# Altium integrated library Linear Technology Power Management Switching Regulator LTC1174-LTC3901.IntLib: 2647 symbols (part 361 of 364)
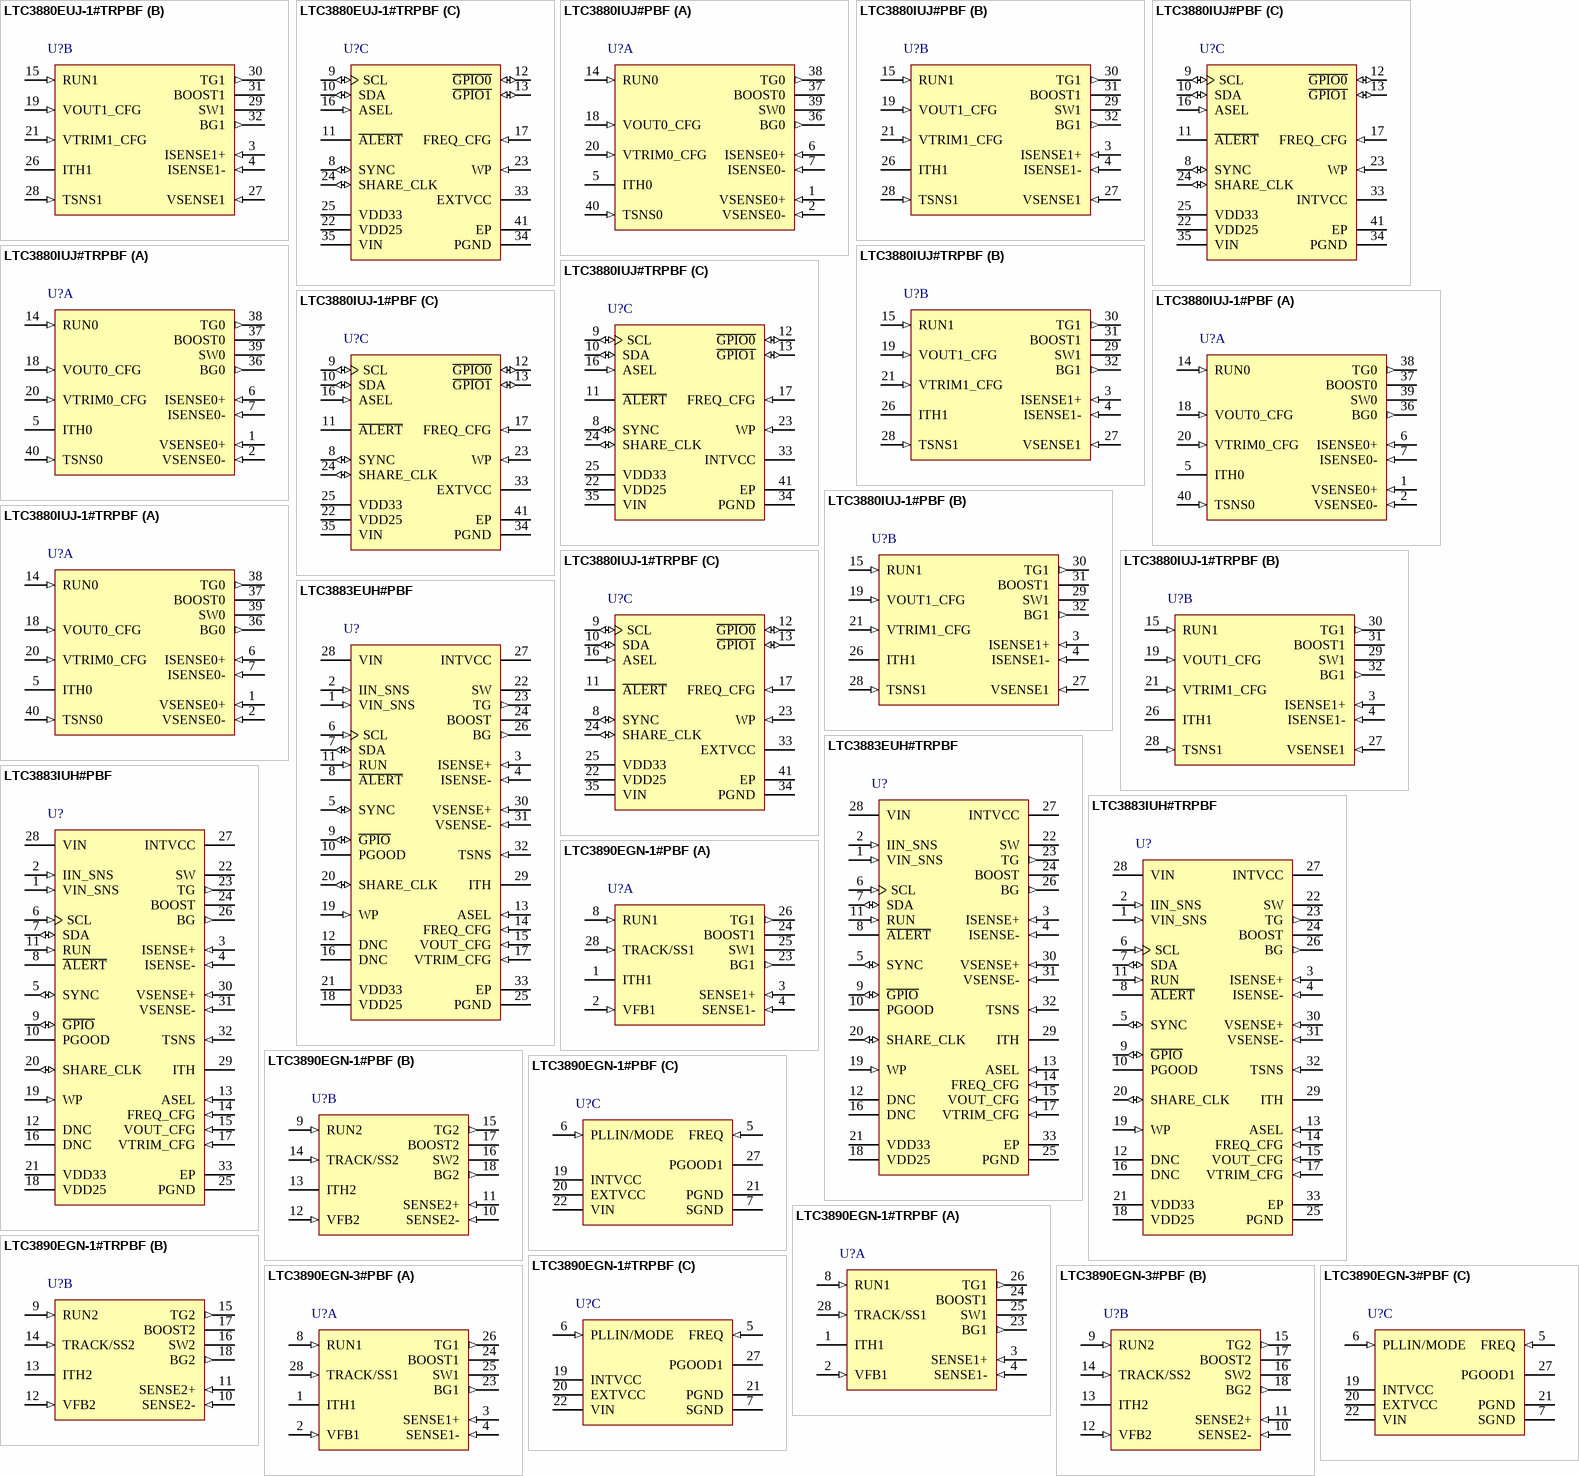
[diagram p304: symbols LTC3880EUJ-1#TRPBF to LTC3890EGN-3#PBF]

## LTC3880IUJ#PBF
designator U?
Dual Output PolyPhase Step-Down DC/DC Controller with Digital Power System Management, 40-pin QFN (UJ-40), -40 to 125 degC, Pb-Free; Manufacturer: Linear Technology; PartNumber: LTC3880IUJ#PBF; Frequency Sync Range: 250kHz - 1MHz; Number of Outputs: 2; DatasheetVersion: Rev. A; PackageVersion: Rev. Ø, 06/2010; PackageReference: UJ-40; PackageDescription: 40-Pin Plastic QFN, Body 6 x 6 mm, Pitch 0.5 mm; Supplier 1: Digi-Key; Supplier Part Number 1: LTC3880IUJ#PBF-ND; Supplier 2: Newark; Supplier Part Number 2: 78T3291; RoHS: TRUE; Mounting Technology: Surface Mount; ComponentLink1Description: Manufacturer URL; ComponentLink1URL: http://www.linear.com/; ComponentLink2Description: Datasheet; ComponentLink2URL: http://cds.linear.com/docs/en/datasheet/3880fa.pdf; ComponentLink3Description: Package Specification; ComponentLink3URL: http://cds.linear.com/docs/en/packaging/QFN_40_05-08-1728.pdf
footprint LT-UJ-40_N (QFN, 40-Leads, Body 6.1x6.1mm, Pitch 0.5mm, Thermal Pad 4.42x4.42mm, IPC Medium Density)
footprint LT-UJ-40_L (QFN, 40-Leads, Body 6.1x6.1mm, Pitch 0.5mm, Thermal Pad 4.42x4.42mm, IPC High Density)
footprint LT-UJ-40_M (QFN, 40-Leads, Body 6.1x6.1mm, Pitch 0.5mm, Thermal Pad 4.42x4.42mm, IPC Low Density)
part A pins: 1 VSENSE0+ (in) "Channel 0 Positive Voltage Sense Input.", 2 VSENSE0- (in) "Channel 0 Negative Voltage Sense Input.", 5 ITH0 "Current Control Threshold and Error Amplifier Compensation Nodes. Each associated channel¡¯s current comparator tripping threshold increases with its ITH voltage.", 6 ISENSE0+ (in) "Current Sense Comparator Inputs. The (+) inputs to the current comparators are normally connected to DCR sensing networks or current sensing resistors.", 7 ISENSE0- (in) "Current Sense Comparator Inputs. The (-) inputs are connected to the low side of the current sense element.", 14 RUN0 (in) "Enable Run Input. Logic high on these pins enables the controller. Open-drain output holds the pin low until the LTC3880 is out of reset. A pullup resistor to 3.3V is required in the application.", 18 VOUT0_CFG (in) "Output Voltage Select Pin. Connect a +/-1% resistor divider between the chip VDD25 VOUTn_CFG and SGND in order to select output voltage. This voltage can be adjusted with the VTRIMn_CFG pins. If the pin is left open, the IC (See Datasheet)", 20 VTRIM0_CFG (in) "Voltage Trim Select Pin. Connect a +/-1% resistor divider between the chip VDD25 VTRIMn_CFG and SGND in order to adjust the output voltage set point. The VTRIMn_CFG settings in conjunction with the VOUTn_CFG setting adjusts (See Datasheet)", 36 BG0 (out) "Bottom Gate Driver Outputs. These pins drive the gates of the bottom N-Channel MOSFETs between PGND and INTVCC.", 37 BOOST0 "Boosted Floating Driver Supplies. The (+) terminal of the booststrap capacitors connect to these pins. These pins swing from a diode voltage drop below INTVCC up to VIN + INTVCC.", 38 TG0 (out) "Top Gate Driver Outputs. These are the outputs of floating drivers with a voltage swing equal to INTVCC superimposed on the switch node voltages.", 39 SW0 "Switch Node Connections to Inductors. Voltage swings at the pins are from a Schottky diode (external) voltage drop below ground to VIN.", 40 TSNS0 (in) "Channel 0,1 External Diode Temperature Sense. Connect to the anode of a diode connected PNP transistor and star connect the cathode to SGND in order to sense remote temperature. If external temperature sense elements are not (See Datasheet)"
part B pins: 3 ISENSE1+ (in) "Current Sense Comparator Inputs. The (+) inputs to the current comparators are normally connected to DCR sensing networks or current sensing resistors.", 4 ISENSE1- (in) "Current Sense Comparator Inputs. The (-) inputs are connected to the low side of the current sense element.", 15 RUN1 (in) "Enable Run Input. Logic high on these pins enables the controller. Open-drain output holds the pin low until the LTC3880 is out of reset. A pullup resistor to 3.3V is required in the application.", 19 VOUT1_CFG (in) "Output Voltage Select Pin. Connect a +/-1% resistor divider between the chip VDD25 VOUTn_CFG and SGND in order to select output voltage. This voltage can be adjusted with the VTRIMn_CFG pins. If the pin is left open, the IC (See Datasheet)", 21 VTRIM1_CFG (in) "Voltage Trim Select Pin. Connect a +/-1% resistor divider between the chip VDD25 VTRIMn_CFG and SGND in order to adjust the output voltage set point. The VTRIMn_CFG settings in conjunction with the VOUTn_CFG setting adjusts (See Datasheet)", 26 ITH1 "Current Control Threshold and Error Amplifier Compensation Nodes. Each associated channel¡¯s current comparator tripping threshold increases with its ITH voltage.", 27 VSENSE1 (in) "Channel 1 Voltage Sense Input. This input voltage is referenced to the SGND pin.", 28 TSNS1 (in) "Channel 0,1 External Diode Temperature Sense. Connect to the anode of a diode connected PNP transistor and star connect the cathode to SGND in order to sense remote temperature. If external temperature sense elements are not (See Datasheet)", 29 SW1 "Switch Node Connections to Inductors. Voltage swings at the pins are from a Schottky diode (external) voltage drop below ground to VIN.", 30 TG1 (out) "Top Gate Driver Outputs. These are the outputs of floating drivers with a voltage swing equal to INTVCC superimposed on the switch node voltages.", 31 BOOST1 "Boosted Floating Driver Supplies. The (+) terminal of the booststrap capacitors connect to these pins. These pins swing from a diode voltage drop below INTVCC up to VIN + INTVCC.", 32 BG1 (out) "Bottom Gate Driver Outputs. These pins drive the gates of the bottom N-Channel MOSFETs between PGND and INTVCC."
part C pins: 8 SYNC (io) "External Clock Synchronization Input and Open-Drain Output Pin. If an external clock is present at this pin, the switching frequency will be synchronized to the external clock. If clock master mode is enabled, this pin will (See Datasheet)", 9 SCL (io) "Serial Bus Clock Input. Open-drain output, can hold the output low if clock stretching is enabled. A pull-up resistor to 3.3V is required in the application.", 10 SDA (io) "Serial Bus Data Input and Output. A pull-up resistor to 3.3V is required in the application.", 11 ~{ALERT} (oc) "Open-Drain Digital Output. Connect the S\M\B\A\L\E\R\T\ signal to this pin. A pull-up resistor to 3.3V is required in the application", 12 ~{GPIO0} (io) "Digital Programmable General Purpose Inputs and Outputs. Open-drain output. A pull-up resistor to 3.3V is required in the application.", 13 ~{GPIO1} (io) "Digital Programmable General Purpose Inputs and Outputs. Open-drain output. A pull-up resistor to 3.3V is required in the application.", 16 ASEL (in) "Serial Bus Address Configuration Input. Connect a +/-1% resistor divider between the chip VDD25 ASEL and SGND in order to select the 4LSBs of the serial bus interface address. A resistor divider on ASEL is recommended if (See Datasheet)", 17 FREQ_CFG (in) "Frequency or Phase Set/Select Pin. Connect a +/-1% resistor divider between the chip VDD25 FREQ_CFG and SGND in order to select switching frequency or phase. If the pin is left open, the IC will use the value programmed in (See Datasheet)", 22 VDD25 (power) "Internally Generated 2.5V power Supply Output Pin. Bypass this pin to SGND with a low ESR 1uF capacitor. Do not load this pin with external current except for the +/-1% resistor dividers required for the configuration pins.", 23 WP (in) "Write Protect Pin Active High. An internal 10uA current source pulls the pin to VDD33. If WP is high, the PMBus writes are restricted.", 24 SHARE_CLK (io) "Share Clock, Bidirectional Open- Drain Clock Sharing Pin. Nominally 100kHz. Used to synchronize the timing between multiple LTC3880s. Tie all SHARE_CLK pins together. All LTC3880s will synchronize to the fastest clock. A (See Datasheet)", 25 VDD33 (power) "Internally Generated 3.3V Power Supply Output Pin. Bypass this pin to SGND with a low ESR 1uF capacitor. Do not load this pin with external current except for the pull-up resistors required for G\P\I\O\n, SCLK, SYNC and (See Datasheet)", 33 INTVCC (power) "Internal Regulator 5V Output. The control circuits are powered from this voltage. Decouple this pin to PGND with a minimum of 4.7uF low ESR tantalum or ceramic capacitor.", 34 PGND (power) "Power Ground Pin. Connect this pin closely to the sources of the bottom N-channel MOSFETs, the (-) terminal of CVCC and the (-) terminal of CIN.", 35 VIN (power) "Main Input Supply. Decouple this pin to PGND with a capacitor (0.1uF to 1uF). For applications where the main input power is 5V, tie the VIN and INTVCC pins together.", 41 EP (power) "Signal Ground. All smallsignal and compensation components should connect to this ground, which in turn connects to PGND at one point."

## LTC3880IUJ#TRPBF
designator U?
Dual Output PolyPhase Step-Down DC/DC Controller with Digital Power System Management, 40-pin QFN (UJ-40), -40 to 125 degC, Pb-Free, Tape and Reel; Manufacturer: Linear Technology; PartNumber: LTC3880IUJ#TRPBF; Frequency Sync Range: 250kHz - 1MHz; Number of Outputs: 2; DatasheetVersion: Rev. A; PackageVersion: Rev. Ø, 06/2010; PackageReference: UJ-40; PackageDescription: 40-Pin Plastic QFN, Body 6 x 6 mm, Pitch 0.5 mm; Supplier 1: Digi-Key; Supplier Part Number 1: LTC3880IUJ#TRPBF-ND; Packing: Tape and Reel; RoHS: TRUE; Mounting Technology: Surface Mount; ComponentLink1Description: Manufacturer URL; ComponentLink1URL: http://www.linear.com/; ComponentLink2Description: Datasheet; ComponentLink2URL: http://cds.linear.com/docs/en/datasheet/3880fa.pdf; ComponentLink3Description: Package Specification; ComponentLink3URL: http://cds.linear.com/docs/en/packaging/QFN_40_05-08-1728.pdf
footprint LT-UJ-40_N (QFN, 40-Leads, Body 6.1x6.1mm, Pitch 0.5mm, Thermal Pad 4.42x4.42mm, IPC Medium Density)
footprint LT-UJ-40_L (QFN, 40-Leads, Body 6.1x6.1mm, Pitch 0.5mm, Thermal Pad 4.42x4.42mm, IPC High Density)
footprint LT-UJ-40_M (QFN, 40-Leads, Body 6.1x6.1mm, Pitch 0.5mm, Thermal Pad 4.42x4.42mm, IPC Low Density)
part A pins: 1 VSENSE0+ (in) "Channel 0 Positive Voltage Sense Input.", 2 VSENSE0- (in) "Channel 0 Negative Voltage Sense Input.", 5 ITH0 "Current Control Threshold and Error Amplifier Compensation Nodes. Each associated channel¡¯s current comparator tripping threshold increases with its ITH voltage.", 6 ISENSE0+ (in) "Current Sense Comparator Inputs. The (+) inputs to the current comparators are normally connected to DCR sensing networks or current sensing resistors.", 7 ISENSE0- (in) "Current Sense Comparator Inputs. The (-) inputs are connected to the low side of the current sense element.", 14 RUN0 (in) "Enable Run Input. Logic high on these pins enables the controller. Open-drain output holds the pin low until the LTC3880 is out of reset. A pullup resistor to 3.3V is required in the application.", 18 VOUT0_CFG (in) "Output Voltage Select Pin. Connect a +/-1% resistor divider between the chip VDD25 VOUTn_CFG and SGND in order to select output voltage. This voltage can be adjusted with the VTRIMn_CFG pins. If the pin is left open, the IC (See Datasheet)", 20 VTRIM0_CFG (in) "Voltage Trim Select Pin. Connect a +/-1% resistor divider between the chip VDD25 VTRIMn_CFG and SGND in order to adjust the output voltage set point. The VTRIMn_CFG settings in conjunction with the VOUTn_CFG setting adjusts (See Datasheet)", 36 BG0 (out) "Bottom Gate Driver Outputs. These pins drive the gates of the bottom N-Channel MOSFETs between PGND and INTVCC.", 37 BOOST0 "Boosted Floating Driver Supplies. The (+) terminal of the booststrap capacitors connect to these pins. These pins swing from a diode voltage drop below INTVCC up to VIN + INTVCC.", 38 TG0 (out) "Top Gate Driver Outputs. These are the outputs of floating drivers with a voltage swing equal to INTVCC superimposed on the switch node voltages.", 39 SW0 "Switch Node Connections to Inductors. Voltage swings at the pins are from a Schottky diode (external) voltage drop below ground to VIN.", 40 TSNS0 (in) "Channel 0,1 External Diode Temperature Sense. Connect to the anode of a diode connected PNP transistor and star connect the cathode to SGND in order to sense remote temperature. If external temperature sense elements are not (See Datasheet)"
part B pins: 3 ISENSE1+ (in) "Current Sense Comparator Inputs. The (+) inputs to the current comparators are normally connected to DCR sensing networks or current sensing resistors.", 4 ISENSE1- (in) "Current Sense Comparator Inputs. The (-) inputs are connected to the low side of the current sense element.", 15 RUN1 (in) "Enable Run Input. Logic high on these pins enables the controller. Open-drain output holds the pin low until the LTC3880 is out of reset. A pullup resistor to 3.3V is required in the application.", 19 VOUT1_CFG (in) "Output Voltage Select Pin. Connect a +/-1% resistor divider between the chip VDD25 VOUTn_CFG and SGND in order to select output voltage. This voltage can be adjusted with the VTRIMn_CFG pins. If the pin is left open, the IC (See Datasheet)", 21 VTRIM1_CFG (in) "Voltage Trim Select Pin. Connect a +/-1% resistor divider between the chip VDD25 VTRIMn_CFG and SGND in order to adjust the output voltage set point. The VTRIMn_CFG settings in conjunction with the VOUTn_CFG setting adjusts (See Datasheet)", 26 ITH1 "Current Control Threshold and Error Amplifier Compensation Nodes. Each associated channel¡¯s current comparator tripping threshold increases with its ITH voltage.", 27 VSENSE1 (in) "Channel 1 Voltage Sense Input. This input voltage is referenced to the SGND pin.", 28 TSNS1 (in) "Channel 0,1 External Diode Temperature Sense. Connect to the anode of a diode connected PNP transistor and star connect the cathode to SGND in order to sense remote temperature. If external temperature sense elements are not (See Datasheet)", 29 SW1 "Switch Node Connections to Inductors. Voltage swings at the pins are from a Schottky diode (external) voltage drop below ground to VIN.", 30 TG1 (out) "Top Gate Driver Outputs. These are the outputs of floating drivers with a voltage swing equal to INTVCC superimposed on the switch node voltages.", 31 BOOST1 "Boosted Floating Driver Supplies. The (+) terminal of the booststrap capacitors connect to these pins. These pins swing from a diode voltage drop below INTVCC up to VIN + INTVCC.", 32 BG1 (out) "Bottom Gate Driver Outputs. These pins drive the gates of the bottom N-Channel MOSFETs between PGND and INTVCC."
part C pins: 8 SYNC (io) "External Clock Synchronization Input and Open-Drain Output Pin. If an external clock is present at this pin, the switching frequency will be synchronized to the external clock. If clock master mode is enabled, this pin will (See Datasheet)", 9 SCL (io) "Serial Bus Clock Input. Open-drain output, can hold the output low if clock stretching is enabled. A pull-up resistor to 3.3V is required in the application.", 10 SDA (io) "Serial Bus Data Input and Output. A pull-up resistor to 3.3V is required in the application.", 11 ~{ALERT} (oc) "Open-Drain Digital Output. Connect the S\M\B\A\L\E\R\T\ signal to this pin. A pull-up resistor to 3.3V is required in the application", 12 ~{GPIO0} (io) "Digital Programmable General Purpose Inputs and Outputs. Open-drain output. A pull-up resistor to 3.3V is required in the application.", 13 ~{GPIO1} (io) "Digital Programmable General Purpose Inputs and Outputs. Open-drain output. A pull-up resistor to 3.3V is required in the application.", 16 ASEL (in) "Serial Bus Address Configuration Input. Connect a +/-1% resistor divider between the chip VDD25 ASEL and SGND in order to select the 4LSBs of the serial bus interface address. A resistor divider on ASEL is recommended if (See Datasheet)", 17 FREQ_CFG (in) "Frequency or Phase Set/Select Pin. Connect a +/-1% resistor divider between the chip VDD25 FREQ_CFG and SGND in order to select switching frequency or phase. If the pin is left open, the IC will use the value programmed in (See Datasheet)", 22 VDD25 (power) "Internally Generated 2.5V power Supply Output Pin. Bypass this pin to SGND with a low ESR 1uF capacitor. Do not load this pin with external current except for the +/-1% resistor dividers required for the configuration pins.", 23 WP (in) "Write Protect Pin Active High. An internal 10uA current source pulls the pin to VDD33. If WP is high, the PMBus writes are restricted.", 24 SHARE_CLK (io) "Share Clock, Bidirectional Open- Drain Clock Sharing Pin. Nominally 100kHz. Used to synchronize the timing between multiple LTC3880s. Tie all SHARE_CLK pins together. All LTC3880s will synchronize to the fastest clock. A (See Datasheet)", 25 VDD33 (power) "Internally Generated 3.3V Power Supply Output Pin. Bypass this pin to SGND with a low ESR 1uF capacitor. Do not load this pin with external current except for the pull-up resistors required for G\P\I\O\n, SCLK, SYNC and (See Datasheet)", 33 INTVCC (power) "Internal Regulator 5V Output. The control circuits are powered from this voltage. Decouple this pin to PGND with a minimum of 4.7uF low ESR tantalum or ceramic capacitor.", 34 PGND (power) "Power Ground Pin. Connect this pin closely to the sources of the bottom N-channel MOSFETs, the (-) terminal of CVCC and the (-) terminal of CIN.", 35 VIN (power) "Main Input Supply. Decouple this pin to PGND with a capacitor (0.1uF to 1uF). For applications where the main input power is 5V, tie the VIN and INTVCC pins together.", 41 EP (power) "Signal Ground. All smallsignal and compensation components should connect to this ground, which in turn connects to PGND at one point."

## LTC3880IUJ-1#PBF
designator U?
Dual Output PolyPhase Step-Down DC/DC Controller with Digital Power System Management, 40-pin QFN (UJ-40), -40 to 125 degC, Pb-Free; Manufacturer: Linear Technology; PartNumber: LTC3880IUJ-1#PBF; Frequency Sync Range: 250kHz - 1MHz; Number of Outputs: 2; DatasheetVersion: Rev. A; PackageVersion: Rev. Ø, 06/2010; PackageReference: UJ-40; PackageDescription: 40-Pin Plastic QFN, Body 6 x 6 mm, Pitch 0.5 mm; Supplier 1: Digi-Key; Supplier Part Number 1: LTC3880IUJ-1#PBF-ND; RoHS: TRUE; Mounting Technology: Surface Mount; ComponentLink1Description: Manufacturer URL; ComponentLink1URL: http://www.linear.com/; ComponentLink2Description: Datasheet; ComponentLink2URL: http://cds.linear.com/docs/en/datasheet/3880fa.pdf; ComponentLink3Description: Package Specification; ComponentLink3URL: http://cds.linear.com/docs/en/packaging/QFN_40_05-08-1728.pdf
footprint LT-UJ-40_N (QFN, 40-Leads, Body 6.1x6.1mm, Pitch 0.5mm, Thermal Pad 4.42x4.42mm, IPC Medium Density)
footprint LT-UJ-40_L (QFN, 40-Leads, Body 6.1x6.1mm, Pitch 0.5mm, Thermal Pad 4.42x4.42mm, IPC High Density)
footprint LT-UJ-40_M (QFN, 40-Leads, Body 6.1x6.1mm, Pitch 0.5mm, Thermal Pad 4.42x4.42mm, IPC Low Density)
part A pins: 1 VSENSE0+ (in) "Channel 0 Positive Voltage Sense Input.", 2 VSENSE0- (in) "Channel 0 Negative Voltage Sense Input.", 5 ITH0 "Current Control Threshold and Error Amplifier Compensation Nodes. Each associated channel’s current comparator tripping threshold increases with its ITH voltage.", 6 ISENSE0+ (in) "Current Sense Comparator Inputs. The (+) inputs to the current comparators are normally connected to DCR sensing networks or current sensing resistors.", 7 ISENSE0- (in) "Current Sense Comparator Inputs. The (-) inputs are connected to the low side of the current sense element.", 14 RUN0 (in) "Enable Run Input. Logic high on these pins enables the controller. Open-drain output holds the pin low until the LTC3880 is out of reset. A pullup resistor to 3.3V is required in the application.", 18 VOUT0_CFG (in) "Output Voltage Select Pin. Connect a +/-1% resistor divider between the chip VDD25 VOUTn_CFG and SGND in order to select output voltage. This voltage can be adjusted with the VTRIMn_CFG pins. If the pin is left open, the IC (See Datasheet)", 20 VTRIM0_CFG (in) "Voltage Trim Select Pin. Connect a +/-1% resistor divider between the chip VDD25 VTRIMn_CFG and SGND in order to adjust the output voltage set point. The VTRIMn_CFG settings in conjunction with the VOUTn_CFG setting adjusts (See Datasheet)", 36 BG0 (out) "Bottom Gate Driver Outputs. These pins drive the gates of the bottom N-Channel MOSFETs between PGND and INTVCC.", 37 BOOST0 "Boosted Floating Driver Supplies. The (+) terminal of the booststrap capacitors connect to these pins. These pins swing from a diode voltage drop below INTVCC up to VIN + INTVCC.", 38 TG0 (out) "Top Gate Driver Outputs. These are the outputs of floating drivers with a voltage swing equal to INTVCC superimposed on the switch node voltages.", 39 SW0 "Switch Node Connections to Inductors. Voltage swings at the pins are from a Schottky diode (external) voltage drop below ground to VIN.", 40 TSNS0 (in) "Channel 0,1 External Diode Temperature Sense. Connect to the anode of a diode connected PNP transistor and star connect the cathode to SGND in order to sense remote temperature. If external temperature sense elements are not (See Datasheet)"
part B pins: 3 ISENSE1+ (in) "Current Sense Comparator Inputs. The (+) inputs to the current comparators are normally connected to DCR sensing networks or current sensing resistors.", 4 ISENSE1- (in) "Current Sense Comparator Inputs. The (-) inputs are connected to the low side of the current sense element.", 15 RUN1 (in) "Enable Run Input. Logic high on these pins enables the controller. Open-drain output holds the pin low until the LTC3880 is out of reset. A pullup resistor to 3.3V is required in the application.", 19 VOUT1_CFG (in) "Output Voltage Select Pin. Connect a +/-1% resistor divider between the chip VDD25 VOUTn_CFG and SGND in order to select output voltage. This voltage can be adjusted with the VTRIMn_CFG pins. If the pin is left open, the IC (See Datasheet)", 21 VTRIM1_CFG (in) "Voltage Trim Select Pin. Connect a +/-1% resistor divider between the chip VDD25 VTRIMn_CFG and SGND in order to adjust the output voltage set point. The VTRIMn_CFG settings in conjunction with the VOUTn_CFG setting adjusts (See Datasheet)", 26 ITH1 "Current Control Threshold and Error Amplifier Compensation Nodes. Each associated channel’s current comparator tripping threshold increases with its ITH voltage.", 27 VSENSE1 (in) "Channel 1 Voltage Sense Input. This input voltage is referenced to the SGND pin.", 28 TSNS1 (in) "Channel 0,1 External Diode Temperature Sense. Connect to the anode of a diode connected PNP transistor and star connect the cathode to SGND in order to sense remote temperature. If external temperature sense elements are not (See Datasheet)", 29 SW1 "Switch Node Connections to Inductors. Voltage swings at the pins are from a Schottky diode (external) voltage drop below ground to VIN.", 30 TG1 (out) "Top Gate Driver Outputs. These are the outputs of floating drivers with a voltage swing equal to INTVCC superimposed on the switch node voltages.", 31 BOOST1 "Boosted Floating Driver Supplies. The (+) terminal of the booststrap capacitors connect to these pins. These pins swing from a diode voltage drop below INTVCC up to VIN + INTVCC.", 32 BG1 (out) "Bottom Gate Driver Outputs. These pins drive the gates of the bottom N-Channel MOSFETs between PGND and INTVCC."
part C pins: 8 SYNC (io) "External Clock Synchronization Input and Open-Drain Output Pin. If an external clock is present at this pin, the switching frequency will be synchronized to the external clock. If clock master mode is enabled, this pin will (See Datasheet)", 9 SCL (io) "Serial Bus Clock Input. Open-drain output, can hold the output low if clock stretching is enabled. A pull-up resistor to 3.3V is required in the application.", 10 SDA (io) "Serial Bus Data Input and Output. A pull-up resistor to 3.3V is required in the application.", 11 ~{ALERT} (oc) "Open-Drain Digital Output. Connect the S\M\B\A\L\E\R\T\ signal to this pin. A pull-up resistor to 3.3V is required in the application", 12 ~{GPIO0} (io) "Digital Programmable General Purpose Inputs and Outputs. Open-drain output. A pull-up resistor to 3.3V is required in the application.", 13 ~{GPIO1} (io) "Digital Programmable General Purpose Inputs and Outputs. Open-drain output. A pull-up resistor to 3.3V is required in the application.", 16 ASEL (in) "Serial Bus Address Configuration Input. Connect a +/-1% resistor divider between the chip VDD25 ASEL and SGND in order to select the 4LSBs of the serial bus interface address. A resistor divider on ASEL is recommended if (See Datasheet)", 17 FREQ_CFG (in) "Frequency or Phase Set/Select Pin. Connect a +/-1% resistor divider between the chip VDD25 FREQ_CFG and SGND in order to select switching frequency or phase. If the pin is left open, the IC will use the value programmed in (See Datasheet)", 22 VDD25 (power) "Internally Generated 2.5V power Supply Output Pin. Bypass this pin to SGND with a low ESR 1uF capacitor. Do not load this pin with external current except for the +/-1% resistor dividers required for the configuration pins.", 23 WP (in) "Write Protect Pin Active High. An internal 10uA current source pulls the pin to VDD33. If WP is high, the PMBus writes are restricted.", 24 SHARE_CLK (io) "Share Clock, Bidirectional Open- Drain Clock Sharing Pin. Nominally 100kHz. Used to synchronize the timing between multiple LTC3880s. Tie all SHARE_CLK pins together. All LTC3880s will synchronize to the fastest clock. A (See Datasheet)", 25 VDD33 (power) "Internally Generated 3.3V Power Supply Output Pin. Bypass this pin to SGND with a low ESR 1uF capacitor. Do not load this pin with external current except for the pull-up resistors required for G\P\I\O\n, SCLK, SYNC and (See Datasheet)", 33 EXTVCC (power) "External Regulator 5V input. The control circuits are powered from this voltage. Decouple this pin to PGND with a minimum of 4.7uF low ESR tantalum or ceramic capacitor.", 34 PGND (power) "Power Ground Pin. Connect this pin closely to the sources of the bottom N-channel MOSFETs, the (-) terminal of CVCC and the (-) terminal of CIN.", 35 VIN (power) "Main Input Supply. Decouple this pin to PGND with a capacitor (0.1uF to 1uF). For applications where the main input power is 5V, tie the VIN and INTVCC pins together.", 41 EP (power) "Signal Ground. All smallsignal and compensation components should connect to this ground, which in turn connects to PGND at one point."

## LTC3880IUJ-1#TRPBF
designator U?
Dual Output PolyPhase Step-Down DC/DC Controller with Digital Power System Management, 40-pin QFN (UJ-40), -40 to 125 degC, Pb-Free, Tape and Reel; Manufacturer: Linear Technology; PartNumber: LTC3880IUJ-1#TRPBF; Frequency Sync Range: 250kHz - 1MHz; Number of Outputs: 2; DatasheetVersion: Rev. A; PackageVersion: Rev. Ø, 06/2010; PackageReference: UJ-40; PackageDescription: 40-Pin Plastic QFN, Body 6 x 6 mm, Pitch 0.5 mm; Supplier 1: Digi-Key; Supplier Part Number 1: LTC3880IUJ-1#TRPBF-ND; Packing: Tape and Reel; RoHS: TRUE; Mounting Technology: Surface Mount; ComponentLink1Description: Manufacturer URL; ComponentLink1URL: http://www.linear.com/; ComponentLink2Description: Datasheet; ComponentLink2URL: http://cds.linear.com/docs/en/datasheet/3880fa.pdf; ComponentLink3Description: Package Specification; ComponentLink3URL: http://cds.linear.com/docs/en/packaging/QFN_40_05-08-1728.pdf
footprint LT-UJ-40_N (QFN, 40-Leads, Body 6.1x6.1mm, Pitch 0.5mm, Thermal Pad 4.42x4.42mm, IPC Medium Density)
footprint LT-UJ-40_L (QFN, 40-Leads, Body 6.1x6.1mm, Pitch 0.5mm, Thermal Pad 4.42x4.42mm, IPC High Density)
footprint LT-UJ-40_M (QFN, 40-Leads, Body 6.1x6.1mm, Pitch 0.5mm, Thermal Pad 4.42x4.42mm, IPC Low Density)
part A pins: 1 VSENSE0+ (in) "Channel 0 Positive Voltage Sense Input.", 2 VSENSE0- (in) "Channel 0 Negative Voltage Sense Input.", 5 ITH0 "Current Control Threshold and Error Amplifier Compensation Nodes. Each associated channel’s current comparator tripping threshold increases with its ITH voltage.", 6 ISENSE0+ (in) "Current Sense Comparator Inputs. The (+) inputs to the current comparators are normally connected to DCR sensing networks or current sensing resistors.", 7 ISENSE0- (in) "Current Sense Comparator Inputs. The (-) inputs are connected to the low side of the current sense element.", 14 RUN0 (in) "Enable Run Input. Logic high on these pins enables the controller. Open-drain output holds the pin low until the LTC3880 is out of reset. A pullup resistor to 3.3V is required in the application.", 18 VOUT0_CFG (in) "Output Voltage Select Pin. Connect a +/-1% resistor divider between the chip VDD25 VOUTn_CFG and SGND in order to select output voltage. This voltage can be adjusted with the VTRIMn_CFG pins. If the pin is left open, the IC (See Datasheet)", 20 VTRIM0_CFG (in) "Voltage Trim Select Pin. Connect a +/-1% resistor divider between the chip VDD25 VTRIMn_CFG and SGND in order to adjust the output voltage set point. The VTRIMn_CFG settings in conjunction with the VOUTn_CFG setting adjusts (See Datasheet)", 36 BG0 (out) "Bottom Gate Driver Outputs. These pins drive the gates of the bottom N-Channel MOSFETs between PGND and INTVCC.", 37 BOOST0 "Boosted Floating Driver Supplies. The (+) terminal of the booststrap capacitors connect to these pins. These pins swing from a diode voltage drop below INTVCC up to VIN + INTVCC.", 38 TG0 (out) "Top Gate Driver Outputs. These are the outputs of floating drivers with a voltage swing equal to INTVCC superimposed on the switch node voltages.", 39 SW0 "Switch Node Connections to Inductors. Voltage swings at the pins are from a Schottky diode (external) voltage drop below ground to VIN.", 40 TSNS0 (in) "Channel 0,1 External Diode Temperature Sense. Connect to the anode of a diode connected PNP transistor and star connect the cathode to SGND in order to sense remote temperature. If external temperature sense elements are not (See Datasheet)"
part B pins: 3 ISENSE1+ (in) "Current Sense Comparator Inputs. The (+) inputs to the current comparators are normally connected to DCR sensing networks or current sensing resistors.", 4 ISENSE1- (in) "Current Sense Comparator Inputs. The (-) inputs are connected to the low side of the current sense element.", 15 RUN1 (in) "Enable Run Input. Logic high on these pins enables the controller. Open-drain output holds the pin low until the LTC3880 is out of reset. A pullup resistor to 3.3V is required in the application.", 19 VOUT1_CFG (in) "Output Voltage Select Pin. Connect a +/-1% resistor divider between the chip VDD25 VOUTn_CFG and SGND in order to select output voltage. This voltage can be adjusted with the VTRIMn_CFG pins. If the pin is left open, the IC (See Datasheet)", 21 VTRIM1_CFG (in) "Voltage Trim Select Pin. Connect a +/-1% resistor divider between the chip VDD25 VTRIMn_CFG and SGND in order to adjust the output voltage set point. The VTRIMn_CFG settings in conjunction with the VOUTn_CFG setting adjusts (See Datasheet)", 26 ITH1 "Current Control Threshold and Error Amplifier Compensation Nodes. Each associated channel’s current comparator tripping threshold increases with its ITH voltage.", 27 VSENSE1 (in) "Channel 1 Voltage Sense Input. This input voltage is referenced to the SGND pin.", 28 TSNS1 (in) "Channel 0,1 External Diode Temperature Sense. Connect to the anode of a diode connected PNP transistor and star connect the cathode to SGND in order to sense remote temperature. If external temperature sense elements are not (See Datasheet)", 29 SW1 "Switch Node Connections to Inductors. Voltage swings at the pins are from a Schottky diode (external) voltage drop below ground to VIN.", 30 TG1 (out) "Top Gate Driver Outputs. These are the outputs of floating drivers with a voltage swing equal to INTVCC superimposed on the switch node voltages.", 31 BOOST1 "Boosted Floating Driver Supplies. The (+) terminal of the booststrap capacitors connect to these pins. These pins swing from a diode voltage drop below INTVCC up to VIN + INTVCC.", 32 BG1 (out) "Bottom Gate Driver Outputs. These pins drive the gates of the bottom N-Channel MOSFETs between PGND and INTVCC."
part C pins: 8 SYNC (io) "External Clock Synchronization Input and Open-Drain Output Pin. If an external clock is present at this pin, the switching frequency will be synchronized to the external clock. If clock master mode is enabled, this pin will (See Datasheet)", 9 SCL (io) "Serial Bus Clock Input. Open-drain output, can hold the output low if clock stretching is enabled. A pull-up resistor to 3.3V is required in the application.", 10 SDA (io) "Serial Bus Data Input and Output. A pull-up resistor to 3.3V is required in the application.", 11 ~{ALERT} (oc) "Open-Drain Digital Output. Connect the S\M\B\A\L\E\R\T\ signal to this pin. A pull-up resistor to 3.3V is required in the application", 12 ~{GPIO0} (io) "Digital Programmable General Purpose Inputs and Outputs. Open-drain output. A pull-up resistor to 3.3V is required in the application.", 13 ~{GPIO1} (io) "Digital Programmable General Purpose Inputs and Outputs. Open-drain output. A pull-up resistor to 3.3V is required in the application.", 16 ASEL (in) "Serial Bus Address Configuration Input. Connect a +/-1% resistor divider between the chip VDD25 ASEL and SGND in order to select the 4LSBs of the serial bus interface address. A resistor divider on ASEL is recommended if (See Datasheet)", 17 FREQ_CFG (in) "Frequency or Phase Set/Select Pin. Connect a +/-1% resistor divider between the chip VDD25 FREQ_CFG and SGND in order to select switching frequency or phase. If the pin is left open, the IC will use the value programmed in (See Datasheet)", 22 VDD25 (power) "Internally Generated 2.5V power Supply Output Pin. Bypass this pin to SGND with a low ESR 1uF capacitor. Do not load this pin with external current except for the +/-1% resistor dividers required for the configuration pins.", 23 WP (in) "Write Protect Pin Active High. An internal 10uA current source pulls the pin to VDD33. If WP is high, the PMBus writes are restricted.", 24 SHARE_CLK (io) "Share Clock, Bidirectional Open- Drain Clock Sharing Pin. Nominally 100kHz. Used to synchronize the timing between multiple LTC3880s. Tie all SHARE_CLK pins together. All LTC3880s will synchronize to the fastest clock. A (See Datasheet)", 25 VDD33 (power) "Internally Generated 3.3V Power Supply Output Pin. Bypass this pin to SGND with a low ESR 1uF capacitor. Do not load this pin with external current except for the pull-up resistors required for G\P\I\O\n, SCLK, SYNC and (See Datasheet)", 33 EXTVCC (power) "External Regulator 5V input. The control circuits are powered from this voltage. Decouple this pin to PGND with a minimum of 4.7uF low ESR tantalum or ceramic capacitor.", 34 PGND (power) "Power Ground Pin. Connect this pin closely to the sources of the bottom N-channel MOSFETs, the (-) terminal of CVCC and the (-) terminal of CIN.", 35 VIN (power) "Main Input Supply. Decouple this pin to PGND with a capacitor (0.1uF to 1uF). For applications where the main input power is 5V, tie the VIN and INTVCC pins together.", 41 EP (power) "Signal Ground. All smallsignal and compensation components should connect to this ground, which in turn connects to PGND at one point."

## LTC3883EUH#PBF
designator U?
Single Phase Step-Down DC/DC Controller with Digital Power System Management, 32-pin QFN (UH-32), -40 to 105 degC, Pb-Free; Manufacturer: Linear Technology; PartNumber: LTC3883EUH#PBF; Frequency Sync Range: 250kHz - 1MHz; Number of Outputs: 1; PackageVersion: Rev. D, 06/2010; PackageReference: UH-32; PackageDescription: 32-Pin Plastic QFN, Body 5 x 5 mm, Pitch 0.5 mm; Supplier 1: Digi-Key; Supplier Part Number 1: LTC3883EUH#PBF-ND; Supplier 2: Farnell; Supplier Part Number 2: 2215165; Supplier 3: Newark; Supplier Part Number 3: 44W6813; RoHS: TRUE; Mounting Technology: Surface Mount; Code_JEDEC: MO-220; ComponentLink1Description: Manufacturer URL; ComponentLink1URL: http://www.linear.com/; ComponentLink2Description: Datasheet; ComponentLink2URL: http://cds.linear.com/docs/en/datasheet/3883f.pdf; ComponentLink3Description: Package Specification; ComponentLink3URL: http://cds.linear.com/docs/en/packaging/QFN_32_05-08-1693.pdf
footprint LT-UH-32_N (QFN, 32-Leads, Body 5.1x5.1mm, Pitch 0.5mm, Thermal Pad 3.45X3.45mm, IPC Medium Density)
footprint LT-UH-32_L (QFN, 32-Leads, Body 5.1x5.1mm, Pitch 0.5mm, Thermal Pad 3.45X3.45mm, IPC High Density)
footprint LT-UH-32_M (QFN, 32-Leads, Body 5.1x5.1mm, Pitch 0.5mm, Thermal Pad 3.45X3.45mm, IPC Low Density)
pins: 1 VIN_SNS (in) "Input Current Sense Comparator Input. The (-) input to the input current comparator is normally connected to the supply side of the input current sense resistor through a 100ohm resistor. If the input current sense amplifier (See Datasheet)", 2 IIN_SNS (in) "Input Current Sense Comparator Input. The (+) input to the input current comparator is normally connected to the power stage side of the input current sense resistor through a 100ohm resistor. If the input current sense (See Datasheet)", 3 ISENSE+ (in) "Current Sense Comparator Input. The (+) input to the current comparator is normally connected to the DCR sensing network or current sensing resistor.", 4 ISENSE- (in) "Current Sense Comparator Input. The (-) input is connected to the output.", 5 SYNC (io) "External Clock Synchronization Input and Open-Drain Output Pin. If an external clock is present at this pin, the switching frequency will be synchronized to the external clock. If clock master mode is enabled, this pin will (See Datasheet)", 6 SCL (in) "Serial Bus Clock Input. A pull-up resistor to 3.3V is required in the application.", 7 SDA (io) "Serial Bus Data Input and Output. A pull-up resistor to 3.3V is required in the application.", 8 ~{ALERT} (oc) "Open-Drain Digital Output. Connect the S\M\B\A\L\E\R\T\ signal to this pin.", 9 ~{GPIO} (io) "Digital Programmable General Purpose Inputs and Outputs. Open-drain output.", 10 PGOOD (oc) "Digital Power Good Indicator. Opendrain output.", 11 RUN (in) "Enable Run Input. Logic high on this pin enables the controller. This pin requires a resistor pullup to 3.3V in the application and should be driven by an open-drain digital output.", 12 DNC "Do Not Connect to This Pin.", 13 ASEL (in) "Serial Bus Address Configuration Input. Connect a +/-1% resistor divider between the chip VDD25 ASEL and GND in order to select the 4LSBs of the serial bus interface address. A resistor divider on ASEL is required if there (See Datasheet)", 14 FREQ_CFG (in) "Frequency or Phase Set/Select Pin. Connect a +/-1% resistor divider between the chip VDD25 FREQ_CFG and GND in order to select switching frequency or phase. If the pin is left open, the IC will use the value programmed in (See Datasheet)", 15 VOUT_CFG (in) "Output Voltage Select Pin. Connect a +/-1% resistor divider between the chip VDD25, VOUT_CFG and SGND in order to select output voltage. This voltage can be adjusted with the VTRIM_CFG pins. If the pin is left open, the IC (See Datasheet)", 16 DNC "Do Not Connect to This Pin.", 17 VTRIM_CFG (in) "Voltage Trim Select Pin. Connect a +/-1% resistor divider between the chip VDD25, VTRIM_CFG and SGND in order to adjust the output voltage set point. The VTRIM_CFG settings in conjunction with the VOUT_CFG setting adjusts (See Datasheet)", 18 VDD25 (power) "Internally Generated 2.5V Power Supply Output. Bypass this pin to GND with a low ESR 1uF capacitor. Do not load this pin with external current.", 19 WP (in) "Write Protect Pin Active High. An internal 10uA current source pulls the pin to VDD33. If WP is high, the PMBus writes are restricted.", 20 SHARE_CLK (io) "Share Clock, Bidirectional Open- Drain Clock Sharing Pin. Nominally 100kHz. Used to synchronize the timing between multiple LTC3883s. Tie all the SHARE_CLK pins together. All LTC3883s will synchronize to the fastest clock. (See Datasheet)", 21 VDD33 (power) "Internally Generated 3.3V Power Supply Output. Bypass this pin to GND with a low ESR 1uF capacitor. Do not load this pin with external current.", 22 SW "Switch Node Connection to the Inductor. Voltage swings at the pins are from a Schottky diode (external) voltage drop below ground to VIN.", 23 TG (out) "Top Gate Driver Output. This is the output of the floating driver with a voltage swing equal to INTVCC superimposed on the switch node voltage.", 24 BOOST "Boosted Floating Driver Supply. The (+) terminal of the booststrap capacitor connects to this pin. This pin swings from a diode voltage drop below INTVCC up to VIN + INTVCC.", 25 PGND (power) "Power Ground Pin. Connect this pin closely to the source of the bottom N-channel MOSFET, the (-) terminal of CINTVCC and the (-) terminal of CIN.", 26 BG (out) "Bottom Gate Driver Output. This pin drives the gates of the bottom N-channel MOSFET between PGND and INTVCC.", 27 INTVCC (power) "Internal Regulator 5V Output. The control circuits are powered from this voltage. Decouple this pin to PGND with a minimum of 4.7uF low ESR tantalum or ceramic capacitor.", 28 VIN (power) "Main Input Supply. Decouple this pin to PGND with a capacitor (0.1uF to 1uF). For applications where the main input power is 5V, tie the VIN and INTVCC pins together. If the input current sense amplifier is not used, this (See Datasheet)", 29 ITH "Current Control Threshold and Error Amplifier Compensation Node. The current comparator tripping threshold increases with the ITH voltage.", 30 VSENSE+ (in) "Positive Voltage Sense Input.", 31 VSENSE- (in) "Negative Voltage Sense Input.", 32 TSNS (in) "External Diode Temperature Sense. Connect to the anode of a diode-connected PNP transistor and star connect the cathode to GND in order to sense remote temperature. If an external temperature sense element is not installed, (See Datasheet)", 33 EP (power) "Ground. All small-signal and compensation components should connect to this ground, which in turn connects to PGND at one point."

## LTC3883EUH#TRPBF
designator U?
Single Phase Step-Down DC/DC Controller with Digital Power System Management, 32-pin QFN (UH-32), -40 to 105 degC, Pb-Free, Tape and Reel; Manufacturer: Linear Technology; PartNumber: LTC3883EUH#TRPBF; Frequency Sync Range: 250kHz - 1MHz; Number of Outputs: 1; PackageVersion: Rev. D, 06/2010; PackageReference: UH-32; PackageDescription: 32-Pin Plastic QFN, Body 5 x 5 mm, Pitch 0.5 mm; Supplier 1: Digi-Key; Supplier Part Number 1: LTC3883EUH#TRPBF-ND; Supplier 2: Newark; Supplier Part Number 2: 44W6814; Packing: Tape and Reel; RoHS: TRUE; Mounting Technology: Surface Mount; Code_JEDEC: MO-220; ComponentLink1Description: Manufacturer URL; ComponentLink1URL: http://www.linear.com/; ComponentLink2Description: Datasheet; ComponentLink2URL: http://cds.linear.com/docs/en/datasheet/3883f.pdf; ComponentLink3Description: Package Specification; ComponentLink3URL: http://cds.linear.com/docs/en/packaging/QFN_32_05-08-1693.pdf
footprint LT-UH-32_N (QFN, 32-Leads, Body 5.1x5.1mm, Pitch 0.5mm, Thermal Pad 3.45X3.45mm, IPC Medium Density)
footprint LT-UH-32_L (QFN, 32-Leads, Body 5.1x5.1mm, Pitch 0.5mm, Thermal Pad 3.45X3.45mm, IPC High Density)
footprint LT-UH-32_M (QFN, 32-Leads, Body 5.1x5.1mm, Pitch 0.5mm, Thermal Pad 3.45X3.45mm, IPC Low Density)
pins: 1 VIN_SNS (in) "Input Current Sense Comparator Input. The (-) input to the input current comparator is normally connected to the supply side of the input current sense resistor through a 100ohm resistor. If the input current sense amplifier (See Datasheet)", 2 IIN_SNS (in) "Input Current Sense Comparator Input. The (+) input to the input current comparator is normally connected to the power stage side of the input current sense resistor through a 100ohm resistor. If the input current sense (See Datasheet)", 3 ISENSE+ (in) "Current Sense Comparator Input. The (+) input to the current comparator is normally connected to the DCR sensing network or current sensing resistor.", 4 ISENSE- (in) "Current Sense Comparator Input. The (-) input is connected to the output.", 5 SYNC (io) "External Clock Synchronization Input and Open-Drain Output Pin. If an external clock is present at this pin, the switching frequency will be synchronized to the external clock. If clock master mode is enabled, this pin will (See Datasheet)", 6 SCL (in) "Serial Bus Clock Input. A pull-up resistor to 3.3V is required in the application.", 7 SDA (io) "Serial Bus Data Input and Output. A pull-up resistor to 3.3V is required in the application.", 8 ~{ALERT} (oc) "Open-Drain Digital Output. Connect the S\M\B\A\L\E\R\T\ signal to this pin.", 9 ~{GPIO} (io) "Digital Programmable General Purpose Inputs and Outputs. Open-drain output.", 10 PGOOD (oc) "Digital Power Good Indicator. Opendrain output.", 11 RUN (in) "Enable Run Input. Logic high on this pin enables the controller. This pin requires a resistor pullup to 3.3V in the application and should be driven by an open-drain digital output.", 12 DNC "Do Not Connect to This Pin.", 13 ASEL (in) "Serial Bus Address Configuration Input. Connect a +/-1% resistor divider between the chip VDD25 ASEL and GND in order to select the 4LSBs of the serial bus interface address. A resistor divider on ASEL is required if there (See Datasheet)", 14 FREQ_CFG (in) "Frequency or Phase Set/Select Pin. Connect a +/-1% resistor divider between the chip VDD25 FREQ_CFG and GND in order to select switching frequency or phase. If the pin is left open, the IC will use the value programmed in (See Datasheet)", 15 VOUT_CFG (in) "Output Voltage Select Pin. Connect a +/-1% resistor divider between the chip VDD25, VOUT_CFG and SGND in order to select output voltage. This voltage can be adjusted with the VTRIM_CFG pins. If the pin is left open, the IC (See Datasheet)", 16 DNC "Do Not Connect to This Pin.", 17 VTRIM_CFG (in) "Voltage Trim Select Pin. Connect a +/-1% resistor divider between the chip VDD25, VTRIM_CFG and SGND in order to adjust the output voltage set point. The VTRIM_CFG settings in conjunction with the VOUT_CFG setting adjusts (See Datasheet)", 18 VDD25 (power) "Internally Generated 2.5V Power Supply Output. Bypass this pin to GND with a low ESR 1uF capacitor. Do not load this pin with external current.", 19 WP (in) "Write Protect Pin Active High. An internal 10uA current source pulls the pin to VDD33. If WP is high, the PMBus writes are restricted.", 20 SHARE_CLK (io) "Share Clock, Bidirectional Open- Drain Clock Sharing Pin. Nominally 100kHz. Used to synchronize the timing between multiple LTC3883s. Tie all the SHARE_CLK pins together. All LTC3883s will synchronize to the fastest clock. (See Datasheet)", 21 VDD33 (power) "Internally Generated 3.3V Power Supply Output. Bypass this pin to GND with a low ESR 1uF capacitor. Do not load this pin with external current.", 22 SW "Switch Node Connection to the Inductor. Voltage swings at the pins are from a Schottky diode (external) voltage drop below ground to VIN.", 23 TG (out) "Top Gate Driver Output. This is the output of the floating driver with a voltage swing equal to INTVCC superimposed on the switch node voltage.", 24 BOOST "Boosted Floating Driver Supply. The (+) terminal of the booststrap capacitor connects to this pin. This pin swings from a diode voltage drop below INTVCC up to VIN + INTVCC.", 25 PGND (power) "Power Ground Pin. Connect this pin closely to the source of the bottom N-channel MOSFET, the (-) terminal of CINTVCC and the (-) terminal of CIN.", 26 BG (out) "Bottom Gate Driver Output. This pin drives the gates of the bottom N-channel MOSFET between PGND and INTVCC.", 27 INTVCC (power) "Internal Regulator 5V Output. The control circuits are powered from this voltage. Decouple this pin to PGND with a minimum of 4.7uF low ESR tantalum or ceramic capacitor.", 28 VIN (power) "Main Input Supply. Decouple this pin to PGND with a capacitor (0.1uF to 1uF). For applications where the main input power is 5V, tie the VIN and INTVCC pins together. If the input current sense amplifier is not used, this (See Datasheet)", 29 ITH "Current Control Threshold and Error Amplifier Compensation Node. The current comparator tripping threshold increases with the ITH voltage.", 30 VSENSE+ (in) "Positive Voltage Sense Input.", 31 VSENSE- (in) "Negative Voltage Sense Input.", 32 TSNS (in) "External Diode Temperature Sense. Connect to the anode of a diode-connected PNP transistor and star connect the cathode to GND in order to sense remote temperature. If an external temperature sense element is not installed, (See Datasheet)", 33 EP (power) "Ground. All small-signal and compensation components should connect to this ground, which in turn connects to PGND at one point."